# EAGLE library part TPS70445PWP (library TPS70445PWP(1))
TPS70445PWP Voltage Refgulator 1.2V 2A
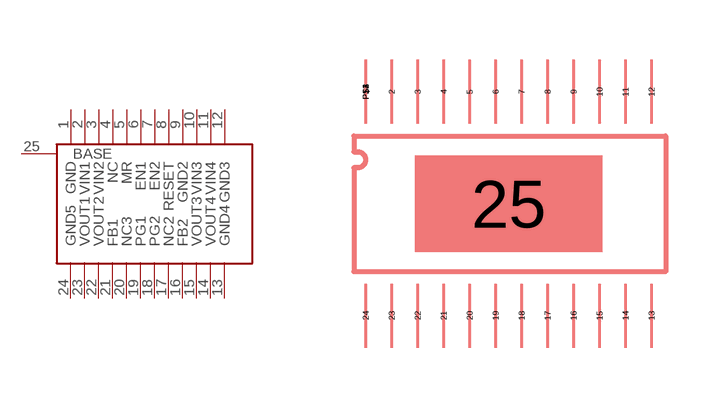
[diagram p0: symbol with the pads of RPDSOG24(1); footprint RPDSOG24(1)]

Designator prefix -

## TPS70445PWPTHIRD  [RPDSOG24(1)]
1  GND
2  VIN1
3  VIN2
4  NC
5  MR
6  EN1
7  EN2
8  RESET
9  GND2
10  VIN3
11  VIN4
12  GND3
13  GND4
14  VOUT4
15  VOUT3
16  FB2
17  NC2
18  PG2
19  PG1
20  NC3
21  FB1
22  VOUT2
23  VOUT1
24  GND5
25  BASE

## Footprint RPDSOG24(1) (pad centres in mm)
RPDSOG24 third version
smd 0.07 x 1.6: 1 0,0; 2 0.65,0; 3 1.3,0; 4 1.95,0; 5 2.6,0; 6 3.25,0; 7 3.9,0; 8 4.55,0; 9 5.2,0; 10 5.85,0; 11 6.5,0; 12 7.15,0; 13 7.15,-5.6; 14 6.5,-5.6; 15 5.85,-5.6; 16 5.2,-5.6; 17 4.55,-5.6; 18 3.9,-5.6; 19 3.25,-5.6; 20 2.6,-5.6; 21 1.95,-5.6; 22 1.3,-5.6; 23 0.65,-5.6; 24 0,-5.6; P$1 0,0; P$2 0,0; P$3 0,0; P$4 0,0
smd 4.68 x 2.4: 25 3.575,-2.8